# EAGLE library part DIL16X300 (library _RoweTel)
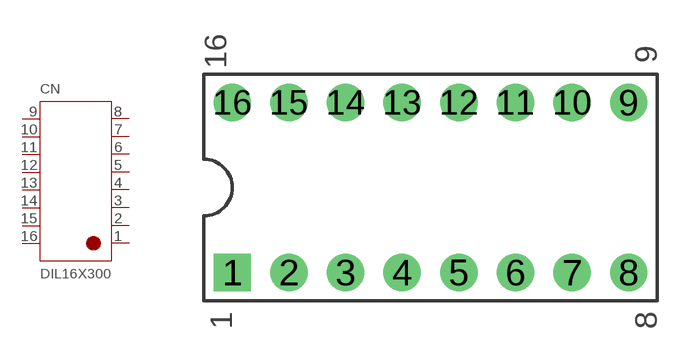
[diagram p77: symbol with the pads of DIL16X300; footprint DIL16X300]

Designator prefix CN

## DIL16X300  [DIL16X300]
1  1
2  2
3  3
4  4
5  5
6  6
7  7
8  8
9  9
10  10
11  11
12  12
13  13
14  14
15  15
16  P16

## Footprint DIL16X300 (pad centres in mm)
drill 0.8 pad 1.676 square: 1 -8.89,-3.81
drill 0.8 pad 1.676: 2 -6.35,-3.81; 3 -3.81,-3.81; 4 -1.27,-3.81; 5 1.27,-3.81; 6 3.81,-3.81; 7 6.35,-3.81; 8 8.89,-3.81; 9 8.89,3.81; 10 6.35,3.81; 11 3.81,3.81; 12 1.27,3.81; 13 -1.27,3.81; 14 -3.81,3.81; 15 -6.35,3.81; 16 -8.89,3.81